# Altium schematic symbol library ServoBoard.SCHLIB: 9 symbols
Pins are listed as number, name and electrical type; pins without a type are passive.

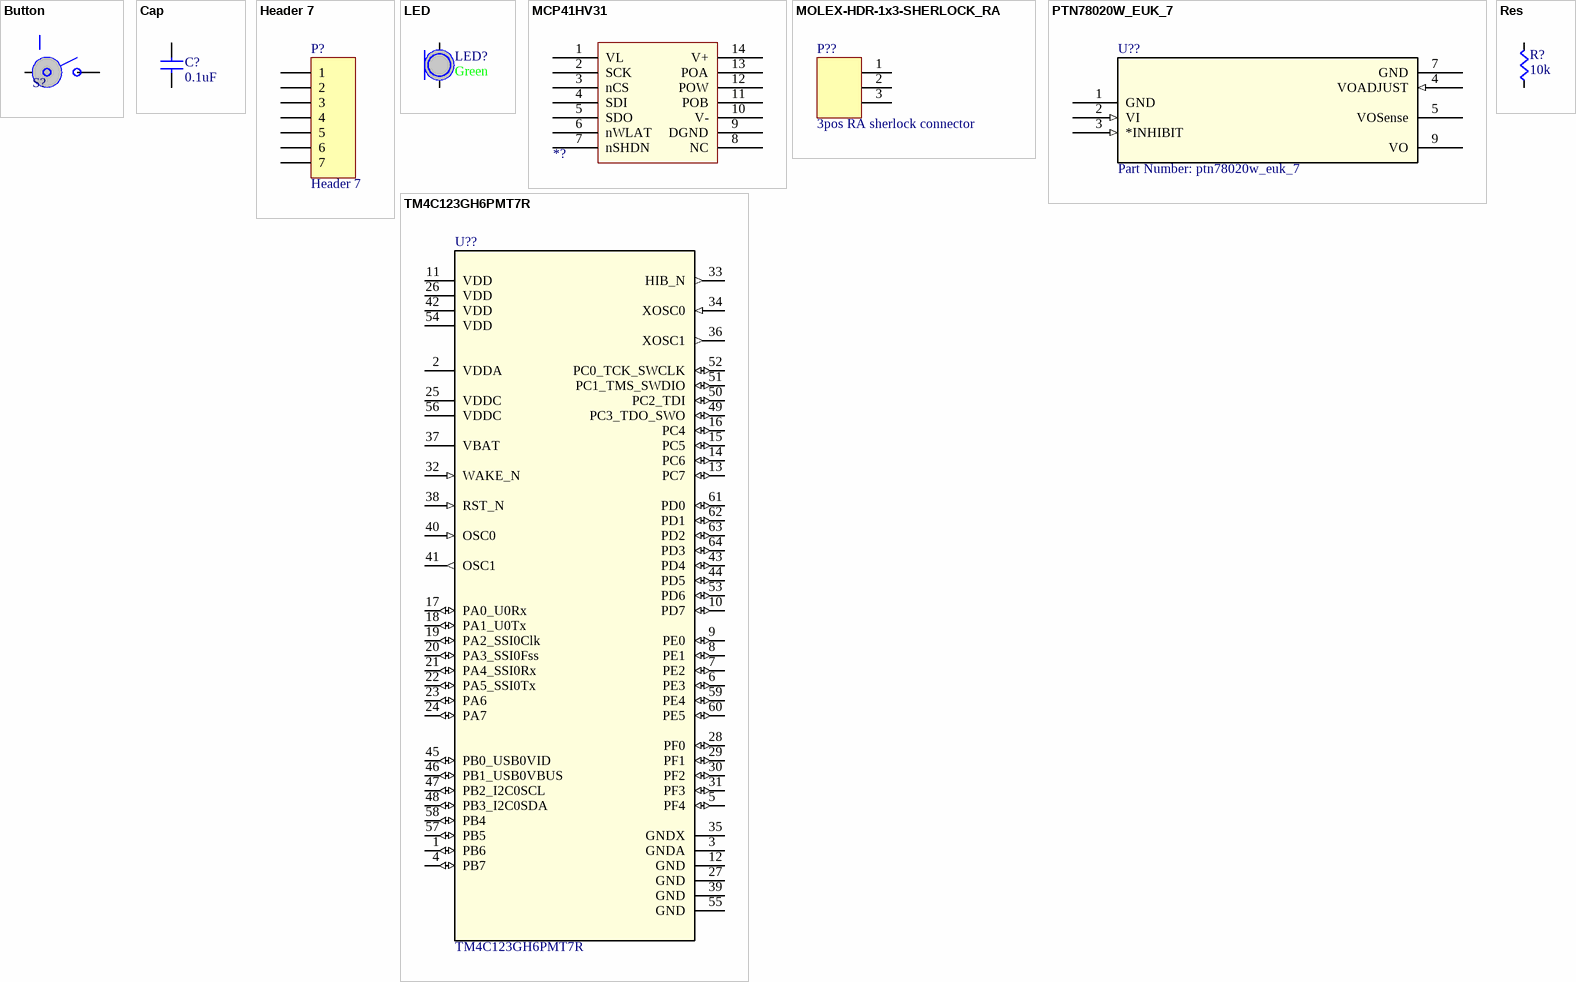
[diagram p0: symbols Button to TM4C123GH6PMT7R]

## Button
designator S?  (value not drawn)
SPST Button; Supplier 1: Digi-Key; Supplier Part Number 1: CKN9087CT-ND
footprint PTS645xxxxSMTR92 (PTS645 Series SMT 6 mm Tactile Switch)
pins: A, B

## Cap
designator C?  value 0.1uF  (hidden comment: Cap)
Supplier 1: Digi-Key; Supplier Part Number 1: 1276-1000-1-ND
footprint CAPC0603 (Chip Capacitor, 2-Leads, Body 1.60x0.80mm, IPC Medium Density)
footprint CAPC1206 (Chip Capacitor, 2-Leads, Body 3.20x1.60mm, IPC Medium Density)
footprint CAPC0805 (Chip Capacitor, 2-Leads, Body 2.01x1.25mm, IPC Medium Density)
footprint CAPC0402 (Chip Capacitor, 2-Leads, Body 1.00x0.50mm, IPC Medium Density)
footprint CAP2225 (Chip Capacitor, 2-Leads, Body 5.60x6.40mm, IPC Medium Density)
footprint CAP1808 (Chip Capacitor, 2-Leads, Body 4.50x2.00mm, IPC Medium Density)
footprint CAP1210
pins: 1 A, 2 B

## Header 7
designator P?
Header, 7-Pin; LatestRevisionDate: 17-Jul-2002; LatestRevisionNote: Re-released for DXP Platform.; Publisher: Altium Limited
footprint HDR1X7 (Connector; Header; 7 Position)
signal-integrity model Connector
pins: 1, 2, 3, 4, 5, 6, 7

## LED
designator LED?  Color: Green  (hidden comment: LED)
Supplier 1: Digi-Key; Supplier Part Number 1: 754-1122-1-ND
footprint LED0603 (Chip LED, 2-Leads, Body 1.60x0.80mm, IPC Medium Density)
footprint LED1206
footprint LED0805 (Chip LED, 2-Leads, Body 2.00x1.25mm, IPC Medium Density)
pins: A, C

## MCP41HV31
designator *?  (value not drawn)
footprint MCP41HV31 - duplicate2
pins: 1 VL, 2 SCK, 3 nCS, 4 SDI, 5 SDO, 6 nWLAT, 7 nSHDN, 8 NC, 9 DGND, 10 V-, 11 POB, 12 POW, 13 POA, 14 V+

## MOLEX-HDR-1x3-SHERLOCK_RA
designator P??, comment 3pos RA sherlock connector
Header, Molex, 2mm Pitch Sherlock Header, Single Row, Right Angle 3 Circuits, Length 3.3mm; Manufacturer Part Number: 35363-0360; Manufacturer: Molex Connector Corporation; Supplier Part Number 1: WM18932-ND; Supplier 1: Digi-Key
footprint MOLEX-HDR-1X3-SHERLOCK-RA
pins: 1, 2, 3

## PTN78020W_EUK_7
designator U??, comment Part Number: ptn78020w_euk_7
6-A Wide-Input Voltage Adjustable Switching Regulator; Manufacturer: Texas Instruments; INDUSTRY_STD_PKG_TYPE: Through-Hole Module; FAMILY_NAME: NON-ISOLATED POL; PIN_COUNT: 7; PACKAGE_DESIGNATOR: EUK; Datasheet_URL: http://www.ti.com/lit/gpn/PTN78020W; GENERIC_PART_NUMBER: PTN78020W; Vendor: Texas Instruments; Manufacturer_Part_Number: ptn78020w_euk_7; Copyright: Copyright (C) 2018 Accelerated Designs. All rights reserved; RefDes: RefDes; Type: DEV; Value: Value
footprint EUK7
pins: 1 GND (power), 2 VI (in), 3 *INHIBIT (in), 4 VOADJUST (in), 5 VOSense, 7 GND (power), 9 VO

## Res
designator R?  value 10k  (hidden comment: Res)
Supplier 1: Digi-Key; Supplier Part Number 1: RMCF0603JT10K0CT-ND
footprint RES0603 (Chip Resistor, 2-Leads, Body 1.60x0.80mm, IPC Medium Density)
footprint FMP300 (Power resistor)
footprint FMP200 (Power resistor Yageo 2W)
footprint RES0402 (Chip Resistor, 2-Leads, Body 1.00x0.50mm, changed from previous)
footprint RES2512 (Chip Resistor, 2-Leads, Body 6.35x3.20mm, IPC Medium Density)
footprint RES1206 (Chip Resistor, 2-Leads, Body 3.20x1.60mm, IPC Medium Density)
footprint RES0805 (Chip Resistor, 2-Leads, Body 2.01x1.25mm, IPC Medium Density)
footprint WSBM8518L1000JT-MOLEX_2 (2 shunt resistor pins of MOLEX type WSBM8518L1000JT)
pins: 1 A, 2 B

## TM4C123GH6PMT7R
designator U??
Imported; PartNumber: TM4C123GH6PMTR; Manufacturer: Texas Instruments; CompType: IC; PIN_COUNT: 64; Application_BuildNumber: *; Alternate_PartNumber: TM4C123GH6PMT; PackageReference: PM0064A; MountType: SMT; RoHS: Y; RefDes: RefDes; TYPE: TYPE; Value: Value
footprint TM4C123GH6PMT7R_L
footprint TM4C123GH6PMT7R_M
footprint TM4C123GH6PMT7R_N
pins: 1 PB6 (io), 2 VDDA (power), 3 GNDA (power), 4 PB7 (io), 5 PF4 (io), 6 PE3 (io), 7 PE2 (io), 8 PE1 (io), 9 PE0 (io), 10 PD7 (io), 11 VDD (power), 12 GND (power), 13 PC7 (io), 14 PC6 (io), 15 PC5 (io), 16 PC4 (io), 17 PA0_U0Rx (io), 18 PA1_U0Tx (io), 19 PA2_SSI0Clk (io), 20 PA3_SSI0Fss (io), 21 PA4_SSI0Rx (io), 22 PA5_SSI0Tx (io), 23 PA6 (io), 24 PA7 (io), 25 VDDC (power), 26 VDD (power), 27 GND (power), 28 PF0 (io), 29 PF1 (io), 30 PF2 (io), 31 PF3 (io), 32 WAKE_N (in), 33 HIB_N (out), 34 XOSC0 (in), 35 GNDX (power), 36 XOSC1 (out), 37 VBAT (power), 38 RST_N (in), 39 GND (power), 40 OSC0 (in), 41 OSC1 (out), 42 VDD (power), 43 PD4 (io), 44 PD5 (io), 45 PB0_USB0VID (io), 46 PB1_USB0VBUS (io), 47 PB2_I2C0SCL (io), 48 PB3_I2C0SDA (io), 49 PC3_TDO_SWO (io), 50 PC2_TDI (io), 51 PC1_TMS_SWDIO (io), 52 PC0_TCK_SWCLK (io), 53 PD6 (io), 54 VDD (power), 55 GND (power), 56 VDDC (power), 57 PB5 (io), 58 PB4 (io), 59 PE4 (io), 60 PE5 (io), 61 PD0 (io), 62 PD1 (io), 63 PD2 (io), 64 PD3 (io)